# Altium footprint library B0505S.PcbLib: 1 footprints
Each footprint in its own frame and in the unit in brackets; x right, y up, seen from the top. Pads: shape width x height; smd on the part's side, far side on the other; paste and mask are expansions set on the pad; w line width, h text height; cw(c..) or ccw(c..) is an arc to the next point about the centre after c.
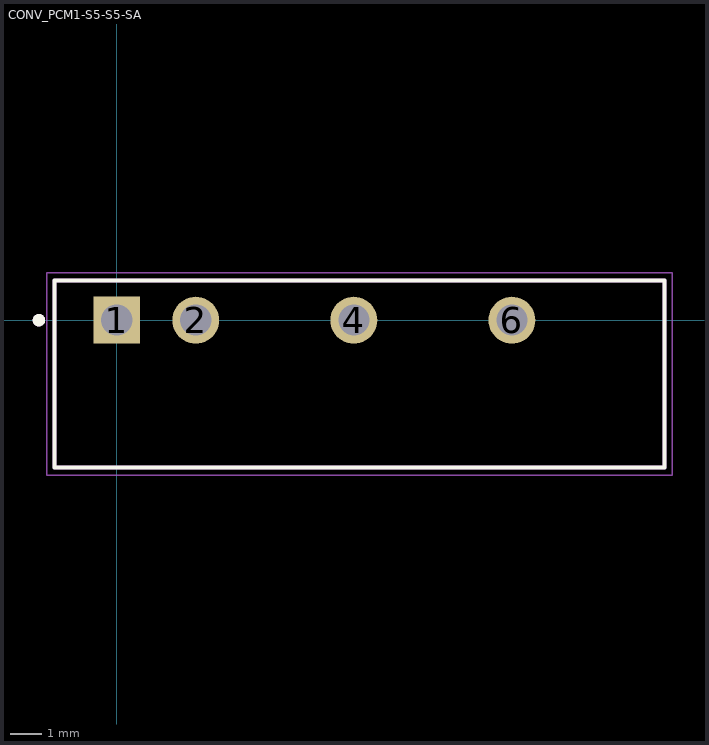
[diagram p0: the footprint, top view; thin cyan lines are the x and y axes]

## CONV_PCM1-S5-S5-SA [mm]
pads (4):
  rect 1.508x1.508 / inner round 1.508 / far side rect 1.508x1.508 hole 1: 1(0,0)
  round 1.508 hole 1: 2(2.54,0) 4(7.62,0) 6(12.7,0)
Top Overlay:
  circle w0.2: c-2.5,0 r0.1
  lines w0.127: -2,-4.73 17.6,-4.73 17.6,1.27 -2,1.27 -2,-4.73
Mechanical 13:
  circle w0.2: c-2.5,0 r0.1
  lines w0.127: -2,-4.73 -2,1.27 17.6,1.27 17.6,-4.73 -2,-4.73
Mechanical 15:
  lines w0.05: -2.25,-4.98 17.85,-4.98 17.85,1.52 -2.25,1.52 -2.25,-4.98
3D body: height 0.25, standoff 0, extent -2.002,-4.73 17.598,1.27